# Altium footprint library 1_to_5_Pin.PcbLib: 133 footprints (part 5 of 9)
Each footprint in its own frame and in the unit in brackets; x right, y up, seen from the top. Pads: shape width x height; smd on the part's side, far side on the other; paste and mask are expansions set on the pad; w line width, h text height; cw(c..) or ccw(c..) is an arc to the next point about the centre after c.
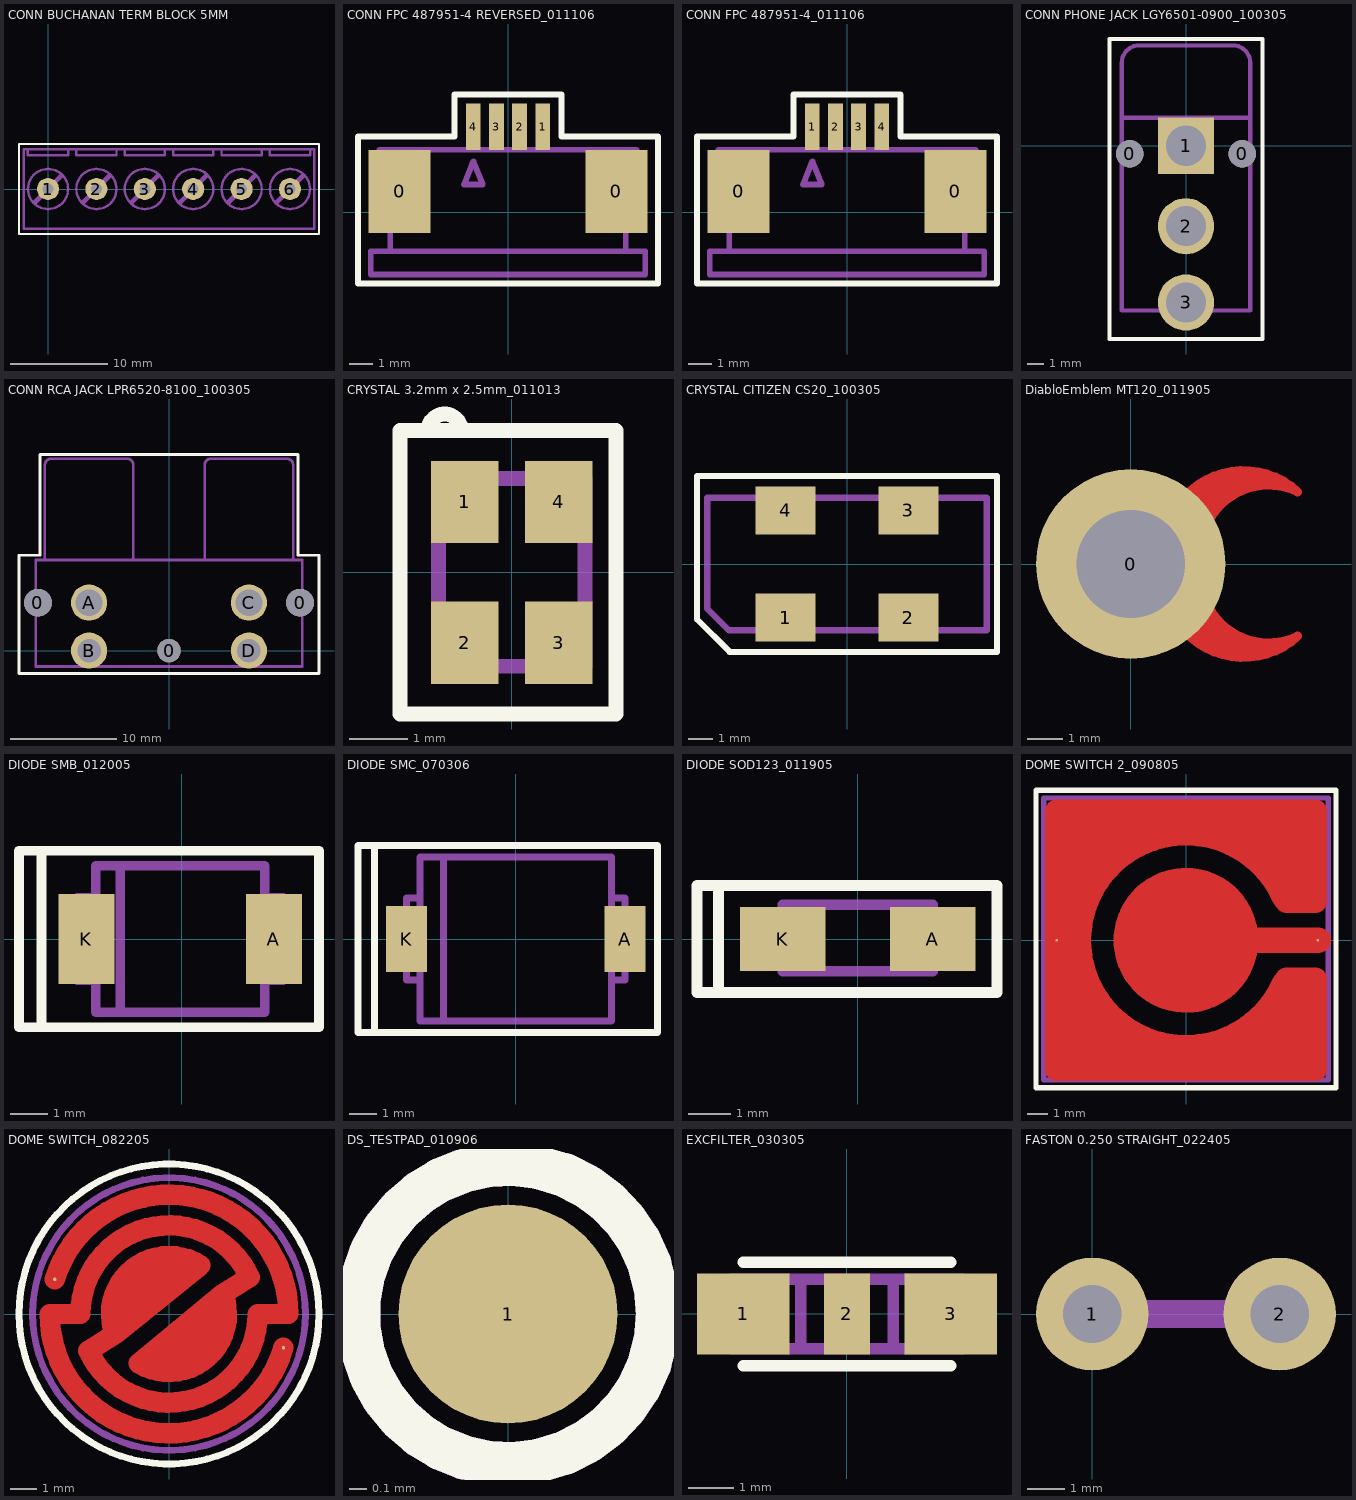
[diagram p4: the footprints below, top view; thin cyan lines are the x and y axes]

## CONN BUCHANAN TERM BLOCK 5MM [mil] "TH"
height 393.7
pads (6):
  round 90 hole 45: 1(0,0) 2(196.85,0) 3(393.7,0) 4(590.55,0) 5(787.4,0) 6(984.25,0)
Top Overlay:
  lines w10: -118.11,-183.07 1000.98,-183.07 1102.36,-183.07 1102.36,0 1102.36,183.07 -16.73,183.07 -118.11,183.07 -118.11,0 -118.11,-183.07
Assembly Outline:
  circle w10: c984.25,0 r81.69
  circle w10: c787.4,0 r81.69
  circle w10: c590.55,0 r81.69
  circle w10: c393.7,0 r81.69
  circle w10: c196.85,0 r81.69
  circle w10: c0,0 r81.69
  lines w10: -81.69,161.42 -81.69,136.81 0,136.81 81.69,136.81 81.69,161.42 ; 115.16,161.42 115.16,136.81 196.85,136.81 278.54,136.81 278.54,161.42 ; 312.01,161.42 312.01,136.81 393.7,136.81 475.39,136.81 475.39,161.42 ; 508.86,161.42 508.86,136.81 590.55,136.81 672.24,136.81 672.24,161.42 ; 705.71,161.42 705.71,136.81 787.4,136.81 869.09,136.81 869.09,161.42 ; 902.56,161.42 902.56,136.81 984.25,136.81 1065.94,136.81 1065.94,161.42 ; -98.43,-161.42 -98.43,0 -98.43,161.42 0,161.42 984.25,161.42 1082.68,161.42 1082.68,0 1082.68,-161.42 984.25,-161.42 0,-161.42 -98.43,-161.42
  lines w20: -53.15,-53.15 0,0 53.15,53.15 ; 143.7,-53.15 196.85,0 250,53.15 ; 340.55,-53.15 393.7,0 446.85,53.15 ; 537.4,-53.15 590.55,0 643.7,53.15 ; 734.25,-53.15 787.4,0 840.55,53.15 ; 931.1,-53.15 984.25,0 1037.4,53.15
Assembly Designator:
  text ".Designator" at 464.57,-16.73 h40
Assembly Comment:
  text ".Comment" at 145.67,-113.19 h40

## CONN FPC 487951-4 REVERSED_011106 [mm] "SMT"
height 2.54
pads (6):
  rect 2.68x3.6 smd: 0(-4.7,0.9) 0(4.7,0.9)
  rect 0.635x2 smd: 1(1.5,3.7) 2(0.5,3.7) 3(-0.5,3.7) 4(-1.5,3.7)
Top Overlay:
  lines w0.254: -6.5,-3.1 0,-3.1 6.5,-3.1 6.5,0 6.5,2.35 6.5,3.275 2.325,3.275 2.325,5.1 -2.325,5.1 -2.325,3.275 -6.5,3.275 -6.5,2.35 -6.5,0 -6.5,-3.1
Assembly Outline:
  lines w0.254: -5.1,2.7 -5.1,0.05 ; -1.5,2.7 -1.5,3.85 ; -0.5,2.7 -0.5,3.85 ; 0.5,2.7 0.5,3.85 ; 1.5,2.7 1.5,3.85 ; 5.1,2.7 5.1,0.05 ; -5.95,-1.7 -5.1,-1.7 -5.1,0.05 ; -5.95,-1.7 5.95,-1.7 ; -5.95,-1.7 -5.95,-2.7 5.95,-2.7 5.95,-1.7 ; -5.1,0.05 -5.575,0.05 -5.575,2.7 0,2.7 5.575,2.7 5.575,0.05 5.1,0.05 ; 5.1,0.05 5.1,-1.7 5.95,-1.7 ; -1.9,1.2 -1.5,2.2 -1.1,1.2 -1.9,1.2
Assembly Designator:
  text ".Designator" at -1.4,0 h1.02
Assembly Comment:
  text ".Comment" at -4.275,-4.475 h1.02

## CONN FPC 487951-4_011106 [mm] "SMT"
height 2.54
pads (6):
  rect 2.68x3.6 smd: 0(-4.7,0.9) 0(4.7,0.9)
  rect 0.635x2 smd: 1(-1.5,3.7) 2(-0.5,3.7) 3(0.5,3.7) 4(1.5,3.7)
Top Overlay:
  lines w0.254: -6.5,-3.1 0,-3.1 6.5,-3.1 6.5,0 6.5,2.35 6.5,3.275 2.325,3.275 2.325,5.1 -2.325,5.1 -2.325,3.275 -6.5,3.275 -6.5,2.35 -6.5,0 -6.5,-3.1
Assembly Outline:
  lines w0.254: -5.1,2.7 -5.1,0.05 ; -1.5,2.7 -1.5,3.85 ; -0.5,2.7 -0.5,3.85 ; 0.5,2.7 0.5,3.85 ; 1.5,2.7 1.5,3.85 ; 5.1,2.7 5.1,0.05 ; -5.95,-1.7 -5.1,-1.7 -5.1,0.05 ; -5.95,-1.7 5.95,-1.7 ; -5.95,-1.7 -5.95,-2.7 5.95,-2.7 5.95,-1.7 ; -5.1,0.05 -5.575,0.05 -5.575,2.7 0,2.7 5.575,2.7 5.575,0.05 5.1,0.05 ; 5.1,0.05 5.1,-1.7 5.95,-1.7 ; -1.9,1.2 -1.5,2.2 -1.1,1.2 -1.9,1.2
Assembly Designator:
  text ".Designator" at -1.4,0 h1.02
Assembly Comment:
  text ".Comment" at -4.275,-4.475 h1.02

## CONN PHONE JACK LGY6501-0900_100305 [mm] "TH"
height 9
pads (5):
  round 1.7 hole 1.7: 0(-3.5,-0.5) 0(3.5,-0.5)
  rect 3.5x3.5 hole 2.5: 1(0,0)
  round 3.5 hole 2.5: 2(0,-5) 3(0,-9.75)
Top Overlay:
  lines w0.254: -4.775,-12.025 -4.425,-12.025 0,-12.025 4.425,-12.025 4.775,-12.025 4.775,6.65 0,6.65 -4.775,6.65 -4.775,-12.025
Assembly Outline:
  lines w0.254: 4,1.75 -4,1.75 ; -4,1.75 -4,5.175 cw(c-2.925,5.175) -2.925,6.25 2.925,6.25 cw(c2.925,5.175) 4,5.175 4,-10.25 -4,-10.25 -4,1.75
Assembly Designator:
  text ".Designator" at -1.425,-3.025 h1.02
Assembly Comment:
  text ".Comment" at -4.325,-15.175 h1.02

## CONN RCA JACK LPR6520-8100_100305 [mm] "TH"
height 12.1
pads (7):
  round 2.6 hole 2.6: 0(-12.3,4.5) 0(12.3,4.5)
  round 2.2 hole 2.2: 0(0,0)
  round 3.4 hole 2.5: A(-7.5,4.5) C(7.5,4.5)
  round 3.4 hole 2.2: B(-7.5,0) D(7.5,0)
Top Overlay:
  lines w0.254: -14.075,-2.15 0,-2.15 14.075,-2.15 14.075,8.95 12.1,8.95 12.1,18.4 0,18.4 -12.1,18.4 -12.1,8.95 -14.075,8.95 -14.075,-2.15
Assembly Outline:
  lines w0.254: 12.3,3.85 12.3,5.175 ; -12.5,-1.5 -11.65,-1.5 12.5,-1.5 12.5,8.5 0,8.5 -12.5,8.5 -12.5,-1.5 ; -11.65,8.5 -11.65,17.425 cw(c-11.075,17.425) -11.075,18 -3.925,18 cw(c-3.925,17.425) -3.35,17.425 -3.35,8.5 -7.5,8.5 -11.65,8.5 ; 3.35,8.5 3.35,17.425 cw(c3.925,17.425) 3.925,18 11.075,18 cw(c11.075,17.425) 11.65,17.425 11.65,8.5 7.5,8.5 3.35,8.5
Assembly Designator:
  text ".Designator" at -0.85,4.95 h1.02
Assembly Comment:
  text ".Comment" at -3.5,-3.425 h1.02

## CRYSTAL 3.2mm x 2.5mm_011013 [mm] "SMT"
height 1
pads (4):
  rect 1.15x1.4 smd: 1(-0.8,1.2) 2(-0.8,-1.2) 3(0.8,-1.2) 4(0.8,1.2)
Top Overlay:
  lines w0.254: -1.872,-2.413 1.778,-2.413 1.778,2.413 -1.905,2.413 ; -1.427,2.413 cw(c-1.143,2.413) -0.859,2.413 ; -1.905,2.413 -1.905,-2.413 -1.905,2.413
Assembly Outline:
  lines w0.254: -1.25,-1.6 -1.25,1.143 ; -1.25,-1.6 -1.25,1.143 ; -1.25,-1.6 1.25,-1.6 1.25,1.6 -0.793,1.6 -1.25,1.143
Assembly Designator:
  text ".Designator" at -0.889,-0.508 h1.02
Assembly Comment:
  text ".Comment" at -3.087,-3.343 h1.02

## CRYSTAL CITIZEN CS20_100305 [mm] "SMT"
height 2
pads (4):
  rect 2.5x2 smd: 1(-2.55,-2.225) 2(2.55,-2.225) 3(2.55,2.225) 4(-2.55,2.225)
Top Overlay:
  lines w0.254: -6.225,0 -6.225,3.65 ; 0,-3.65 6.225,-3.65 ; -6.225,3.65 -6.225,-2.3 -4.875,-3.65 6.225,-3.65 ; -6.225,3.65 0,3.65 6.225,3.65 6.225,0 6.225,-3.65
Assembly Outline:
  lines w0.254: 0,2.75 -5.8,2.75 ; -5.8,2.75 -5.8,-1.85 -4.9,-2.75 5.8,-2.75 5.8,2.75 -5.8,2.75
Assembly Designator:
  text ".Designator" at -1.275,-0.45 h1.02
Assembly Comment:
  text ".Comment" at -2.325,-5.375 h1.02

## DiabloEmblem MT120_011905 [mil] "FEATURE SMT PCB"
pads (1):
  round 210 hole 120: 0(0,0)
Top Layer:
  lines w10: 60,-75 ccw(c125,-15) 185,-80 cw(c152.5,-12.5) 85,-45 ccw(c112.5,-47.5) 110,-75 ; 60,75 cw(c125,15) 185,80 ccw(c152.5,12.5) 85,45 cw(c142.5,32.5) 155,90 ccw(c122.5,37.5) 70,70 ; 65,-65 ccw(c112.5,-42.5) 135,-90 ; 65,-50 ccw(c105,-45) 110,-85 ; 70,60 cw(c112.5,42.5) 130,85 ; 75,-60 ccw(c132.5,-32.5) 160,-90 ; 75,-45 ccw(c132.5,-27.5) 139.66,-87.18 ; 90,80 ccw(c97.5,62.5) 80,55 cw(c130,40) 145,90

## DIODE SMB_012005 [mm] "SMT"
height 2.286
pads (2):
  rect 1.5x2.4 smd: A(2.46,0) K(-2.54,0)
Top Overlay:
  lines w0.254: -3.74,-2.35 -4.34,-2.35 -4.34,2.35 -3.74,2.35 ; -3.74,-2.35 3.66,-2.35 3.66,0 3.66,2.35 -3.74,2.35 ; -3.74,-2.35 -3.74,0 -3.74,2.35
Assembly Outline:
  lines w0.254: -2.29,-1.1 -2.79,-1.1 -2.79,0 -2.79,1.1 -2.29,1.1 ; -1.64,-1.95 -1.64,1.95 -2.29,1.95 ; 2.21,-1.1 2.71,-1.1 2.71,0 2.71,1.1 2.21,1.1 ; -2.29,1.95 2.21,1.95 2.21,-1.95 -2.29,-1.95 -2.29,0 -2.29,1.95
Assembly Designator:
  text ".Designator" at -1.143,-0.381 h1.02
Assembly Comment:
  text ".Comment" at -2.667,2.286 h1.02

## DIODE SMC_070306 [mm] "SMT"
height 2.5
pads (2):
  rect 1.5x2.4 smd: A(4,0) K(-4,0)
Top Overlay:
  lines w0.254: -5.175,-3.425 -5.175,0 -5.175,3.425 ; -5.175,-3.425 0,-3.425 5.175,-3.425 5.175,0 5.175,3.425 0,3.425 -5.175,3.425 ; -5.175,-3.425 -5.775,-3.425 -5.775,3.425 -5.175,3.425
Assembly Outline:
  lines w0.254: -3.5,-1.5 -4,-1.5 -4,0 -4,1.5 -3.5,1.5 ; -2.65,-3 -2.65,3 -3.5,3 ; 0,3 -3.5,3 ; 3.5,-1.5 4,-1.5 4,0 4,1.5 3.5,1.5 ; -3.5,3 3.5,3 3.5,-3 -3.5,-3 -3.5,3
Assembly Designator:
  text ".Designator" at -1.2,-0.425 h1.02
Assembly Comment:
  text ".Comment" at -4.375,-4.35 h1.02

## DIODE SOD123_011905 [mil] "SMT"
height 60
pads (2):
  rect 80x60 smd: A(70,0) K(-70,0)
Top Overlay:
  lines w10: -130,-50 -130,50 ; -150,-50 40,-50 130,-50 130,50 40,50 -150,50 -150,-50
Assembly Outline:
  lines w10: -40,-30 -40,32 ; -70,-30 70,-30 70,32 -70,32 -70,-30
Assembly Designator:
  text ".Designator" at -30,-20 h40
Assembly Comment:
  text ".Comment" at -90,45 h40

## DOME SWITCH 2_090805 [mil] "SMT"
height 39.37
pads (2):
  round 5 smd: 1(-250,0) 2(255,0)
Top Layer:
  circle w100: c0,0 r90
  lines w45: 195,-75 250,-75 250,-250 0,-250 -250,-250 -250,0 -250,250 0,250 250,250 250,75 195,75
  lines w50: 0,0 255,0
  lines w75: -225,-200 -130,-200 ; -225,-170 -225,-95 ; -225,95 -225,170 ; -225,200 -130,200 ; -195,-160 -155,-160 ; 120,-210 225,-210 ; 120,210 225,210 ; 201.49,-90.14 cw(c0,0) -220.74,0 cw(c0,0) 201.49,90.14 ; 210,-210 210,-140 ; 210,140 210,210
  lines w125: -55,-55 50,60
Top Overlay:
  lines w10: -290,-285 -290,290 290,290 290,-285 -290,-285
Top Solder:
  circle w100: c0,0 r90
  lines w45: 195,-75 250,-75 250,-250 0,-250 -250,-250 -250,0 -250,250 0,250 250,250 250,75 195,75
  lines w50: 0,0 255,0
  lines w75: -225,-200 -130,-200 ; -225,-170 -225,-95 ; -225,95 -225,170 ; -225,200 -130,200 ; -195,-160 -155,-160 ; 120,-210 225,-210 ; 120,210 225,210 ; 201.49,-90.14 cw(c0,0) -220.74,0 cw(c0,0) 201.49,90.14 ; 210,-210 210,-140 ; 210,140 210,210
  lines w125: -55,-55 50,60
Assembly Outline:
  lines w10: -275,-270 -275,275 275,275 275,-270 -275,-270
Assembly Designator:
  text ".Designator" at -50,-15 h40
Assembly Comment:
  text ".Comment" at -155,-345 h40

## DOME SWITCH_082205 [mil] "SMT"
height 39.37
pads (2):
  round 5 smd: 1(-167.48,50.75) 2(167.89,-49.38)
Top Layer:
  lines w30: -167.48,50.75 cw(c0,0) 175,0 130,0 cw(c0,0) -118.18,-54.17 -79.59,-29.85 ; 167.89,-49.38 cw(c0,0) -175,0 -130,0 cw(c0,0) 118.18,54.17 79.59,29.85 ; -79.59,-29.85 cw(c0,0) 45.96,71.5 -79.59,-29.85 ; 79.59,29.85 cw(c0,0) -44.55,-72.39 79.59,29.85
  lines w60: -60,15 0,65 ; 5,-60 65,-10
Top Overlay:
  circle w10: c0,0 r220
Top Solder:
  lines w30: -167.48,50.75 cw(c0,0) 175,0 130,0 cw(c0,0) -118.18,-54.17 -79.59,-29.85 ; 167.89,-49.38 cw(c0,0) -175,0 -130,0 cw(c0,0) 118.18,54.17 79.59,29.85 ; -79.59,-29.85 cw(c0,0) 45.96,71.5 -79.59,-29.85 ; 79.59,29.85 cw(c0,0) -44.55,-72.39 79.59,29.85
  lines w60: -60,15 0,65 ; 5,-60 65,-10
Assembly Outline:
  circle w10: c0,0 r200
Assembly Designator:
  text ".Designator" at -40,-15 h40
Assembly Comment:
  text ".Comment" at -185,-270 h40

## DS_TESTPAD_010906 [mil] "SMT"
pads (1):
  round 50 smd mask+1: 1(0,0)
Top Overlay:
  circle w10: c0,0 r34.25
Assembly Outline:
  circle w10: c0,0 r34.25
Assembly Designator:
  text ".Designator" at -6.89,21.65 h25
Assembly Comment:
  text ".Comment" at -70,-85 h40

## EXCFILTER_030305 [mil] "SMT"
height 125
pads (3):
  rect 80x70 smd: 1(-90,0) 3(90,0)
  rect 40x70 smd: 2(0,0)
Top Overlay:
  lines w10: -90,-45 90,-45 ; -90,45 90,45
Assembly Outline:
  lines w10: -40,-30 -40,30 ; 40,-30 40,30 ; -100,-30 100,-30 100,30 -100,30 -100,-30
Assembly Designator:
  text ".Designator" at -35,-15 h40
Assembly Comment:
  text ".Comment" at -115,-85 h40

## FASTON 0.250 STRAIGHT_022405 [mil] "TH"
height 400
pads (2):
  round 120 hole 62: 1(0,0) 2(200,0)
Assembly Outline:
  rectangle: -55,-15 255,15
Assembly Designator:
  text ".Designator" at 45,70 h40
Assembly Comment:
  text ".Comment" at -50,-80 h40